# Altium schematic symbol library EFR32BG13P733F512GM48-B.SchLib: 1 symbol
Pins are listed as number, name and electrical type; pins without a type are passive.

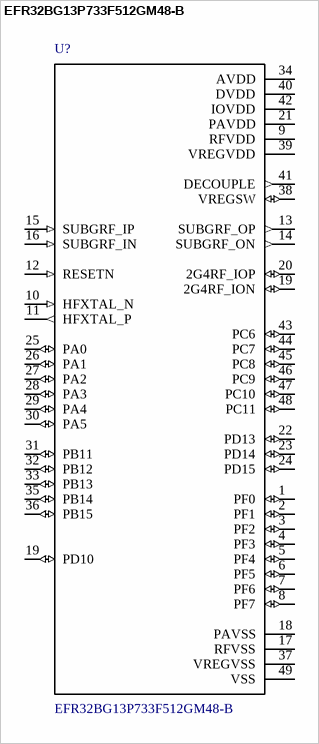
[diagram p0: symbol EFR32BG13P733F512GM48-B]

## EFR32BG13P733F512GM48-B
designator U?
EFR32BG13 Blue Gecko BluetoothÂ® Low Energy SoC; MF: Silicon Labs; Package: VFQFN-48 Silicon Labs; MP: EFR32BG13P733F512GM48-B; SnapEDA_Link: https://www.snapeda.com/parts/EFR32BG13P733F512GM48-B/Silicon%20Labs/view-part/?ref=snap; Price: None; Availability: Unavailable; Value: *
footprint QFN50P700X700X90-49N
pins: 1 PF0 (io), 2 PF1 (io), 3 PF2 (io), 4 PF3 (io), 5 PF4 (io), 6 PF5 (io), 7 PF6 (io), 8 PF7 (io), 9 RFVDD (power), 10 HFXTAL_N (in), 11 HFXTAL_P (out), 12 RESETN (in), 13 SUBGRF_OP (out), 14 SUBGRF_ON (out), 15 SUBGRF_IP (in), 16 SUBGRF_IN (in), 17 RFVSS (power), 18 PAVSS (power), 19 2G4RF_ION (io), 19 PD10 (io), 20 2G4RF_IOP (io), 21 PAVDD (power), 22 PD13 (io), 23 PD14 (io), 24 PD15 (io), 25 PA0 (io), 26 PA1 (io), 27 PA2 (io), 28 PA3 (io), 29 PA4 (io), 30 PA5 (io), 31 PB11 (io), 32 PB12 (io), 33 PB13 (io), 34 AVDD (power), 35 PB14 (io), 36 PB15 (io), 37 VREGVSS (power), 38 VREGSW (io), 39 VREGVDD (power), 40 DVDD (power), 41 DECOUPLE (out), 42 IOVDD (power), 43 PC6 (io), 44 PC7 (io), 45 PC8 (io), 46 PC9 (io), 47 PC10 (io), 48 PC11 (io), 49 VSS (power)